# Altium schematic symbol library SCH - MCU - STM32 - ST MICROELECTRONICS STM32H503CBUX UFQFPN48.SchLib: 1 symbol
Pins are listed as number, name and electrical type; pins without a type are passive.

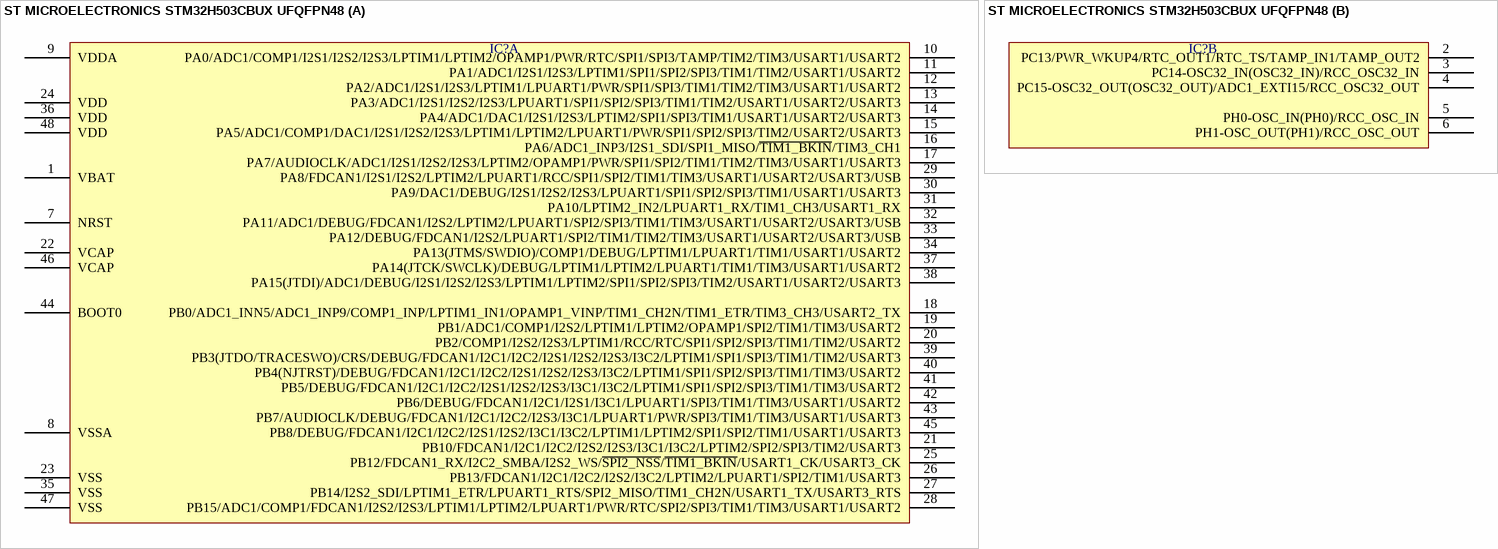
[diagram p0: symbol ST MICROELECTRONICS STM32H503CBUX UFQFPN48]

## ST MICROELECTRONICS STM32H503CBUX UFQFPN48
designator IC?  (value not drawn)
part A pins: 1 VBAT, 7 NRST, 8 VSSA, 9 VDDA, 10 PA0/ADC1/COMP1/I2S1/I2S2/I2S3/LPTIM1/LPTIM2/OPAMP1/PWR/RTC/SPI1/SPI3/TAMP/TIM2/TIM3/USART1/USART2, 11 PA1/ADC1/I2S1/I2S3/LPTIM1/SPI1/SPI2/SPI3/TIM1/TIM2/USART1/USART2, 12 PA2/ADC1/I2S1/I2S3/LPTIM1/LPUART1/PWR/SPI1/SPI3/TIM1/TIM2/TIM3/USART1/USART2, 13 PA3/ADC1/I2S1/I2S2/I2S3/LPUART1/SPI1/SPI2/SPI3/TIM1/TIM2/USART1/USART2/USART3, 14 PA4/ADC1/DAC1/I2S1/I2S3/LPTIM2/SPI1/SPI3/TIM1/USART1/USART2/USART3, 15 PA5/ADC1/COMP1/DAC1/I2S1/I2S2/I2S3/LPTIM1/LPTIM2/LPUART1/PWR/SPI1/SPI2/SPI3/TIM2/USART2/USART3, 16 PA6/ADC1_INP3/I2S1_SDI/SPI1_MISO/~{TIM1_BKIN}/TIM3_CH1, 17 PA7/AUDIOCLK/ADC1/I2S1/I2S2/I2S3/LPTIM2/OPAMP1/PWR/SPI1/SPI2/TIM1/TIM2/TIM3/USART1/USART3, 18 PB0/ADC1_INN5/ADC1_INP9/COMP1_INP/LPTIM1_IN1/OPAMP1_VINP/TIM1_CH2N/TIM1_ETR/TIM3_CH3/USART2_TX, 19 PB1/ADC1/COMP1/I2S2/LPTIM1/LPTIM2/OPAMP1/SPI2/TIM1/TIM3/USART2, 20 PB2/COMP1/I2S2/I2S3/LPTIM1/RCC/RTC/SPI1/SPI2/SPI3/TIM1/TIM2/USART2, 21 PB10/FDCAN1/I2C1/I2C2/I2S2/I2S3/I3C1/I3C2/LPTIM2/SPI2/SPI3/TIM2/USART3, 22 VCAP, 23 VSS, 24 VDD, 25 PB12/FDCAN1_RX/I2C2_SMBA/I2S2_WS/~{SPI2_NSS}/~{TIM1_BKIN}/USART1_CK/USART3_CK, 26 PB13/FDCAN1/I2C1/I2C2/I2S2/I3C2/LPTIM2/LPUART1/SPI2/TIM1/USART3, 27 PB14/I2S2_SDI/LPTIM1_ETR/LPUART1_RTS/SPI2_MISO/TIM1_CH2N/USART1_TX/USART3_RTS, 28 PB15/ADC1/COMP1/FDCAN1/I2S2/I2S3/LPTIM1/LPTIM2/LPUART1/PWR/RTC/SPI2/SPI3/TIM1/TIM3/USART1/USART2, 29 PA8/FDCAN1/I2S1/I2S2/LPTIM2/LPUART1/RCC/SPI1/SPI2/TIM1/TIM3/USART1/USART2/USART3/USB, 30 PA9/DAC1/DEBUG/I2S1/I2S2/I2S3/LPUART1/SPI1/SPI2/SPI3/TIM1/USART1/USART3, 31 PA10/LPTIM2_IN2/LPUART1_RX/TIM1_CH3/USART1_RX, 32 PA11/ADC1/DEBUG/FDCAN1/I2S2/LPTIM2/LPUART1/SPI2/SPI3/TIM1/TIM3/USART1/USART2/USART3/USB, 33 PA12/DEBUG/FDCAN1/I2S2/LPUART1/SPI2/TIM1/TIM2/TIM3/USART1/USART2/USART3/USB, 34 PA13(JTMS/SWDIO)/COMP1/DEBUG/LPTIM1/LPUART1/TIM1/USART1/USART2, 35 VSS, 36 VDD, 37 PA14(JTCK/SWCLK)/DEBUG/LPTIM1/LPTIM2/LPUART1/TIM1/TIM3/USART1/USART2, 38 PA15(JTDI)/ADC1/DEBUG/I2S1/I2S2/I2S3/LPTIM1/LPTIM2/SPI1/SPI2/SPI3/TIM2/USART1/USART2/USART3, 39 PB3(JTDO/TRACESWO)/CRS/DEBUG/FDCAN1/I2C1/I2C2/I2S1/I2S2/I2S3/I3C2/LPTIM1/SPI1/SPI3/TIM1/TIM2/USART3, 40 PB4(NJTRST)/DEBUG/FDCAN1/I2C1/I2C2/I2S1/I2S2/I2S3/I3C2/LPTIM1/SPI1/SPI2/SPI3/TIM1/TIM3/USART2, 41 PB5/DEBUG/FDCAN1/I2C1/I2C2/I2S1/I2S2/I2S3/I3C1/I3C2/LPTIM1/SPI1/SPI2/SPI3/TIM1/TIM3/USART2, 42 PB6/DEBUG/FDCAN1/I2C1/I2S1/I3C1/LPUART1/SPI3/TIM1/TIM3/USART1/USART2, 43 PB7/AUDIOCLK/DEBUG/FDCAN1/I2C1/I2C2/I2S3/I3C1/LPUART1/PWR/SPI3/TIM1/TIM3/USART1/USART3, 44 BOOT0, 45 PB8/DEBUG/FDCAN1/I2C1/I2C2/I2S1/I2S2/I3C1/I3C2/LPTIM1/LPTIM2/SPI1/SPI2/TIM1/USART1/USART3, 46 VCAP, 47 VSS, 48 VDD
part B pins: 2 PC13/PWR_WKUP4/RTC_OUT1/RTC_TS/TAMP_IN1/TAMP_OUT2, 3 PC14-OSC32_IN(OSC32_IN)/RCC_OSC32_IN, 4 PC15-OSC32_OUT(OSC32_OUT)/ADC1_EXTI15/RCC_OSC32_OUT, 5 PH0-OSC_IN(PH0)/RCC_OSC_IN, 6 PH1-OSC_OUT(PH1)/RCC_OSC_OUT